# Altium footprint library con-wago255.PCBLIB: 101 footprints (part 2 of 7)
Each footprint in its own frame and in the unit in brackets; x right, y up, seen from the top. Pads: shape width x height; smd on the part's side, far side on the other; paste and mask are expansions set on the pad; w line width, h text height; cw(c..) or ccw(c..) is an arc to the next point about the centre after c.
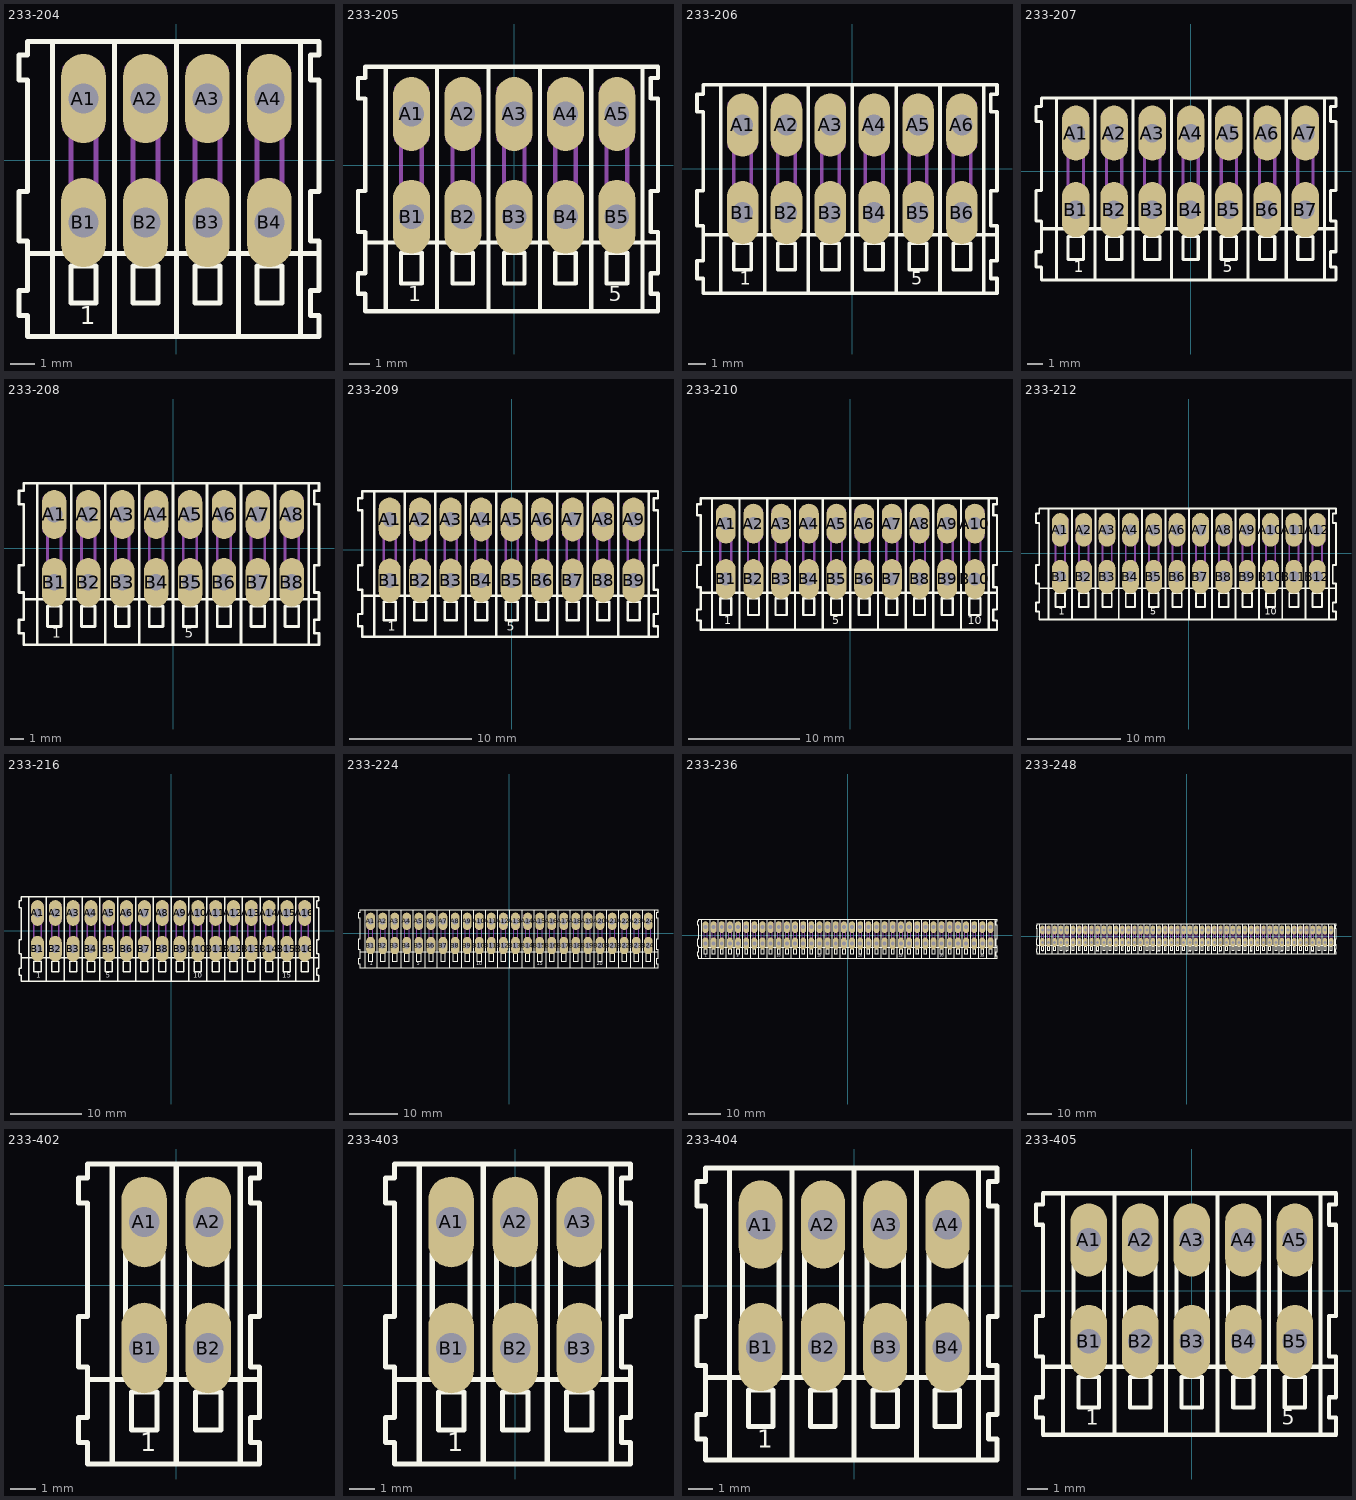
[diagram p1: the footprints below, top view; thin cyan lines are the x and y axes]

## 233-204 [mil]
pads (8):
  oval 70.86x141.72 hole 47.24: A1(-147.64,98.43) A2(-49.21,98.43) A3(49.21,98.43) A4(147.64,98.43) B1(-147.64,-98.43) B2(-49.21,-98.43) B3(49.21,-98.43) B4(147.64,-98.43)
Top Overlay:
  lines w8: -236.22,-147.64 226.38,-147.64 ; -196.85,-275.59 -196.85,187.01 ; -98.43,-275.59 -98.43,187.01 ; 0,-275.59 0,187.01 ; 98.43,-275.59 98.43,187.01 ; 196.85,-275.59 196.85,187.01 ; 226.38,-147.64 226.38,-206.69 212.6,-206.69 212.6,-246.06 226.38,-246.06 226.38,-279.53 -236.22,-279.53 -236.22,-246.06 -250,-246.06 -250,-206.69 -236.22,-206.69 -236.22,-127.95 -250,-127.95 -250,-49.21 -236.22,-49.21 -236.22,127.95 -250,127.95 -250,167.32 -236.22,167.32 -236.22,188.98 226.38,188.98 226.38,167.32 212.6,167.32 212.6,127.95 226.38,127.95 226.38,-49.21 212.6,-49.21 212.6,-127.95 226.38,-127.95 226.38,-147.64 ; -167.32,-226.38 -167.32,-167.32 -127.95,-167.32 -127.95,-226.38 -167.32,-226.38 ; -68.9,-226.38 -68.9,-167.32 -29.53,-167.32 -29.53,-226.38 -68.9,-226.38 ; 29.53,-226.38 29.53,-167.32 68.9,-167.32 68.9,-226.38 29.53,-226.38 ; 127.95,-226.38 127.95,-167.32 167.32,-167.32 167.32,-226.38 127.95,-226.38
  text "1" at -153.54,-269.69 h49.6
Mechanical 16:
  lines w8: -167.32,49.21 -177.17,49.21 -177.17,147.64 -118.11,147.64 -118.11,49.21 -127.95,49.21 ; -167.32,49.21 -127.95,49.21 ; -167.32,49.21 -167.32,-39.37 -127.95,-39.37 -127.95,49.21 ; -68.9,49.21 -78.74,49.21 -78.74,147.64 -19.69,147.64 -19.69,49.21 -29.53,49.21 ; -68.9,49.21 -29.53,49.21 ; -68.9,49.21 -68.9,-39.37 -29.53,-39.37 -29.53,49.21 ; 29.53,49.21 19.69,49.21 19.69,147.64 78.74,147.64 78.74,49.21 68.9,49.21 ; 29.53,49.21 68.9,49.21 ; 29.53,49.21 29.53,-39.37 68.9,-39.37 68.9,49.21 ; 127.95,49.21 118.11,49.21 118.11,147.64 177.17,147.64 177.17,49.21 167.32,49.21 ; 127.95,49.21 167.32,49.21 ; 127.95,49.21 127.95,-39.37 167.32,-39.37 167.32,49.21 ; -167.32,68.9 -167.32,127.95 -127.95,127.95 -127.95,68.9 -167.32,68.9 ; -68.9,68.9 -68.9,127.95 -29.53,127.95 -29.53,68.9 -68.9,68.9 ; 29.53,68.9 29.53,127.95 68.9,127.95 68.9,68.9 29.53,68.9 ; 127.95,68.9 127.95,127.95 167.32,127.95 167.32,68.9 127.95,68.9

## 233-205 [mm]
pads (10):
  oval 1.8x3.6 hole 1.2: A1(-5,2.5) A2(-2.5,2.5) A3(0,2.5) A4(2.5,2.5) A5(5,2.5) B1(-5,-2.5) B2(-2.5,-2.5) B3(0,-2.5) B4(2.5,-2.5) B5(5,-2.5)
Top Overlay:
  lines w0.203: -7.25,-3.75 7,-3.75 ; -6.25,-7 -6.25,4.75 ; -3.75,-7 -3.75,4.75 ; -1.25,-7 -1.25,4.75 ; 1.25,-7 1.25,4.75 ; 3.75,-7 3.75,4.75 ; 6.25,-7 6.25,4.75 ; 7,-3.75 7,-5.25 6.65,-5.25 6.65,-6.25 7,-6.25 7,-7.1 -7.25,-7.1 -7.25,-6.25 -7.6,-6.25 -7.6,-5.25 -7.25,-5.25 -7.25,-3.25 -7.6,-3.25 -7.6,-1.25 -7.25,-1.25 -7.25,3.25 -7.6,3.25 -7.6,4.25 -7.25,4.25 -7.25,4.8 7,4.8 7,4.25 6.65,4.25 6.65,3.25 7,3.25 7,-1.25 6.65,-1.25 6.65,-3.25 7,-3.25 7,-3.75 ; -5.5,-5.75 -5.5,-4.25 -4.5,-4.25 -4.5,-5.75 -5.5,-5.75 ; -3,-5.75 -3,-4.25 -2,-4.25 -2,-5.75 -3,-5.75 ; -0.5,-5.75 -0.5,-4.25 0.5,-4.25 0.5,-5.75 -0.5,-5.75 ; 2,-5.75 2,-4.25 3,-4.25 3,-5.75 2,-5.75 ; 4.5,-5.75 4.5,-4.25 5.5,-4.25 5.5,-5.75 4.5,-5.75
  text "1" at -5.15,-6.85 h1.26
  text "5" at 4.6,-6.85 h1.26
Mechanical 16:
  lines w0.203: -5.5,1.25 -5.75,1.25 -5.75,3.75 -4.25,3.75 -4.25,1.25 -4.5,1.25 ; -5.5,1.25 -4.5,1.25 ; -5.5,1.25 -5.5,-1 -4.5,-1 -4.5,1.25 ; -3,1.25 -3.25,1.25 -3.25,3.75 -1.75,3.75 -1.75,1.25 -2,1.25 ; -3,1.25 -2,1.25 ; -3,1.25 -3,-1 -2,-1 -2,1.25 ; -0.5,1.25 -0.75,1.25 -0.75,3.75 0.75,3.75 0.75,1.25 0.5,1.25 ; -0.5,1.25 0.5,1.25 ; -0.5,1.25 -0.5,-1 0.5,-1 0.5,1.25 ; 2,1.25 1.75,1.25 1.75,3.75 3.25,3.75 3.25,1.25 3,1.25 ; 2,1.25 3,1.25 ; 2,1.25 2,-1 3,-1 3,1.25 ; 4.5,1.25 4.25,1.25 4.25,3.75 5.75,3.75 5.75,1.25 5.5,1.25 ; 4.5,1.25 5.5,1.25 ; 4.5,1.25 4.5,-1 5.5,-1 5.5,1.25 ; -5.5,1.75 -5.5,3.25 -4.5,3.25 -4.5,1.75 -5.5,1.75 ; -3,1.75 -3,3.25 -2,3.25 -2,1.75 -3,1.75 ; -0.5,1.75 -0.5,3.25 0.5,3.25 0.5,1.75 -0.5,1.75 ; 2,1.75 2,3.25 3,3.25 3,1.75 2,1.75 ; 4.5,1.75 4.5,3.25 5.5,3.25 5.5,1.75 4.5,1.75

## 233-206 [mil]
pads (12):
  oval 70.86x141.72 hole 47.24: A1(-246.06,98.43) A2(-147.64,98.43) A3(-49.21,98.43) A4(49.21,98.43) A5(147.64,98.43) A6(246.06,98.43) B1(-246.06,-98.43) B2(-147.64,-98.43) B3(-49.21,-98.43) B4(49.21,-98.43) B5(147.64,-98.43) B6(246.06,-98.43)
Top Overlay:
  lines w8: -334.65,-147.64 324.8,-147.64 ; -295.28,-275.59 -295.28,187.01 ; -196.85,-275.59 -196.85,187.01 ; -98.43,-275.59 -98.43,187.01 ; 0,-275.59 0,187.01 ; 98.43,-275.59 98.43,187.01 ; 196.85,-275.59 196.85,187.01 ; 295.28,-275.59 295.28,187.01 ; 324.8,-147.64 324.8,-206.69 311.02,-206.69 311.02,-246.06 324.8,-246.06 324.8,-279.53 -334.65,-279.53 -334.65,-246.06 -348.43,-246.06 -348.43,-206.69 -334.65,-206.69 -334.65,-127.95 -348.43,-127.95 -348.43,-49.21 -334.65,-49.21 -334.65,127.95 -348.43,127.95 -348.43,167.32 -334.65,167.32 -334.65,188.98 324.8,188.98 324.8,167.32 311.02,167.32 311.02,127.95 324.8,127.95 324.8,-49.21 311.02,-49.21 311.02,-127.95 324.8,-127.95 324.8,-147.64 ; -265.75,-226.38 -265.75,-167.32 -226.38,-167.32 -226.38,-226.38 -265.75,-226.38 ; -167.32,-226.38 -167.32,-167.32 -127.95,-167.32 -127.95,-226.38 -167.32,-226.38 ; -68.9,-226.38 -68.9,-167.32 -29.53,-167.32 -29.53,-226.38 -68.9,-226.38 ; 29.53,-226.38 29.53,-167.32 68.9,-167.32 68.9,-226.38 29.53,-226.38 ; 127.95,-226.38 127.95,-167.32 167.32,-167.32 167.32,-226.38 127.95,-226.38 ; 226.38,-226.38 226.38,-167.32 265.75,-167.32 265.75,-226.38 226.38,-226.38
  text "1" at -251.97,-269.69 h49.6
  text "5" at 131.89,-269.69 h49.6
Mechanical 16:
  lines w8: -265.75,49.21 -275.59,49.21 -275.59,147.64 -216.54,147.64 -216.54,49.21 -226.38,49.21 ; -265.75,49.21 -226.38,49.21 ; -265.75,49.21 -265.75,-39.37 -226.38,-39.37 -226.38,49.21 ; -167.32,49.21 -177.17,49.21 -177.17,147.64 -118.11,147.64 -118.11,49.21 -127.95,49.21 ; -167.32,49.21 -127.95,49.21 ; -167.32,49.21 -167.32,-39.37 -127.95,-39.37 -127.95,49.21 ; -68.9,49.21 -78.74,49.21 -78.74,147.64 -19.69,147.64 -19.69,49.21 -29.53,49.21 ; -68.9,49.21 -29.53,49.21 ; -68.9,49.21 -68.9,-39.37 -29.53,-39.37 -29.53,49.21 ; 29.53,49.21 19.69,49.21 19.69,147.64 78.74,147.64 78.74,49.21 68.9,49.21 ; 29.53,49.21 68.9,49.21 ; 29.53,49.21 29.53,-39.37 68.9,-39.37 68.9,49.21 ; 127.95,49.21 118.11,49.21 118.11,147.64 177.17,147.64 177.17,49.21 167.32,49.21 ; 127.95,49.21 167.32,49.21 ; 127.95,49.21 127.95,-39.37 167.32,-39.37 167.32,49.21 ; 226.38,49.21 216.54,49.21 216.54,147.64 275.59,147.64 275.59,49.21 265.75,49.21 ; 226.38,49.21 265.75,49.21 ; 226.38,49.21 226.38,-39.37 265.75,-39.37 265.75,49.21 ; -265.75,68.9 -265.75,127.95 -226.38,127.95 -226.38,68.9 -265.75,68.9 ; -167.32,68.9 -167.32,127.95 -127.95,127.95 -127.95,68.9 -167.32,68.9 ; -68.9,68.9 -68.9,127.95 -29.53,127.95 -29.53,68.9 -68.9,68.9 ; 29.53,68.9 29.53,127.95 68.9,127.95 68.9,68.9 29.53,68.9 ; 127.95,68.9 127.95,127.95 167.32,127.95 167.32,68.9 127.95,68.9 ; 226.38,68.9 226.38,127.95 265.75,127.95 265.75,68.9 226.38,68.9

## 233-207 [mm]
pads (14):
  oval 1.8x3.6 hole 1.2: A1(-7.5,2.5) A2(-5,2.5) A3(-2.5,2.5) A4(0,2.5) A5(2.5,2.5) A6(5,2.5) A7(7.5,2.5) B1(-7.5,-2.5) B2(-5,-2.5) B3(-2.5,-2.5) B4(0,-2.5) B5(2.5,-2.5) B6(5,-2.5) B7(7.5,-2.5)
Top Overlay:
  lines w0.203: -9.75,-3.75 9.5,-3.75 ; -8.75,-7 -8.75,4.75 ; -6.25,-7 -6.25,4.75 ; -3.75,-7 -3.75,4.75 ; -1.25,-7 -1.25,4.75 ; 1.25,-7 1.25,4.75 ; 3.75,-7 3.75,4.75 ; 6.25,-7 6.25,4.75 ; 8.75,-7 8.75,4.75 ; 9.5,-3.75 9.5,-5.25 9.15,-5.25 9.15,-6.25 9.5,-6.25 9.5,-7.1 -9.75,-7.1 -9.75,-6.25 -10.1,-6.25 -10.1,-5.25 -9.75,-5.25 -9.75,-3.25 -10.1,-3.25 -10.1,-1.25 -9.75,-1.25 -9.75,3.25 -10.1,3.25 -10.1,4.25 -9.75,4.25 -9.75,4.8 9.5,4.8 9.5,4.25 9.15,4.25 9.15,3.25 9.5,3.25 9.5,-1.25 9.15,-1.25 9.15,-3.25 9.5,-3.25 9.5,-3.75 ; -8,-5.75 -8,-4.25 -7,-4.25 -7,-5.75 -8,-5.75 ; -5.5,-5.75 -5.5,-4.25 -4.5,-4.25 -4.5,-5.75 -5.5,-5.75 ; -3,-5.75 -3,-4.25 -2,-4.25 -2,-5.75 -3,-5.75 ; -0.5,-5.75 -0.5,-4.25 0.5,-4.25 0.5,-5.75 -0.5,-5.75 ; 2,-5.75 2,-4.25 3,-4.25 3,-5.75 2,-5.75 ; 4.5,-5.75 4.5,-4.25 5.5,-4.25 5.5,-5.75 4.5,-5.75 ; 7,-5.75 7,-4.25 8,-4.25 8,-5.75 7,-5.75
  text "1" at -7.65,-6.85 h1.26
  text "5" at 2.1,-6.85 h1.26
Mechanical 16:
  lines w0.203: -8,1.25 -8.25,1.25 -8.25,3.75 -6.75,3.75 -6.75,1.25 -7,1.25 ; -8,1.25 -7,1.25 ; -8,1.25 -8,-1 -7,-1 -7,1.25 ; -5.5,1.25 -5.75,1.25 -5.75,3.75 -4.25,3.75 -4.25,1.25 -4.5,1.25 ; -5.5,1.25 -4.5,1.25 ; -5.5,1.25 -5.5,-1 -4.5,-1 -4.5,1.25 ; -3,1.25 -3.25,1.25 -3.25,3.75 -1.75,3.75 -1.75,1.25 -2,1.25 ; -3,1.25 -2,1.25 ; -3,1.25 -3,-1 -2,-1 -2,1.25 ; -0.5,1.25 -0.75,1.25 -0.75,3.75 0.75,3.75 0.75,1.25 0.5,1.25 ; -0.5,1.25 0.5,1.25 ; -0.5,1.25 -0.5,-1 0.5,-1 0.5,1.25 ; 2,1.25 1.75,1.25 1.75,3.75 3.25,3.75 3.25,1.25 3,1.25 ; 2,1.25 3,1.25 ; 2,1.25 2,-1 3,-1 3,1.25 ; 4.5,1.25 4.25,1.25 4.25,3.75 5.75,3.75 5.75,1.25 5.5,1.25 ; 4.5,1.25 5.5,1.25 ; 4.5,1.25 4.5,-1 5.5,-1 5.5,1.25 ; 7,1.25 6.75,1.25 6.75,3.75 8.25,3.75 8.25,1.25 8,1.25 ; 7,1.25 8,1.25 ; 7,1.25 7,-1 8,-1 8,1.25 ; -8,1.75 -8,3.25 -7,3.25 -7,1.75 -8,1.75 ; -5.5,1.75 -5.5,3.25 -4.5,3.25 -4.5,1.75 -5.5,1.75 ; -3,1.75 -3,3.25 -2,3.25 -2,1.75 -3,1.75 ; -0.5,1.75 -0.5,3.25 0.5,3.25 0.5,1.75 -0.5,1.75 ; 2,1.75 2,3.25 3,3.25 3,1.75 2,1.75 ; 4.5,1.75 4.5,3.25 5.5,3.25 5.5,1.75 4.5,1.75 ; 7,1.75 7,3.25 8,3.25 8,1.75 7,1.75

## 233-208 [mil]
pads (16):
  oval 70.86x141.72 hole 47.24: A1(-344.49,98.43) A2(-246.06,98.43) A3(-147.64,98.43) A4(-49.21,98.43) A5(49.21,98.43) A6(147.64,98.43) A7(246.06,98.43) A8(344.49,98.43) B1(-344.49,-98.43) B2(-246.06,-98.43) B3(-147.64,-98.43) B4(-49.21,-98.43) B5(49.21,-98.43) B6(147.64,-98.43) B7(246.06,-98.43) B8(344.49,-98.43)
Top Overlay:
  lines w8: -433.07,-147.64 423.23,-147.64 ; -393.7,-275.59 -393.7,187.01 ; -295.28,-275.59 -295.28,187.01 ; -196.85,-275.59 -196.85,187.01 ; -98.43,-275.59 -98.43,187.01 ; 0,-275.59 0,187.01 ; 98.43,-275.59 98.43,187.01 ; 196.85,-275.59 196.85,187.01 ; 295.28,-275.59 295.28,187.01 ; 393.7,-275.59 393.7,187.01 ; 423.23,-147.64 423.23,-206.69 409.45,-206.69 409.45,-246.06 423.23,-246.06 423.23,-279.53 -433.07,-279.53 -433.07,-246.06 -446.85,-246.06 -446.85,-206.69 -433.07,-206.69 -433.07,-127.95 -446.85,-127.95 -446.85,-49.21 -433.07,-49.21 -433.07,127.95 -446.85,127.95 -446.85,167.32 -433.07,167.32 -433.07,188.98 423.23,188.98 423.23,167.32 409.45,167.32 409.45,127.95 423.23,127.95 423.23,-49.21 409.45,-49.21 409.45,-127.95 423.23,-127.95 423.23,-147.64 ; -364.17,-226.38 -364.17,-167.32 -324.8,-167.32 -324.8,-226.38 -364.17,-226.38 ; -265.75,-226.38 -265.75,-167.32 -226.38,-167.32 -226.38,-226.38 -265.75,-226.38 ; -167.32,-226.38 -167.32,-167.32 -127.95,-167.32 -127.95,-226.38 -167.32,-226.38 ; -68.9,-226.38 -68.9,-167.32 -29.53,-167.32 -29.53,-226.38 -68.9,-226.38 ; 29.53,-226.38 29.53,-167.32 68.9,-167.32 68.9,-226.38 29.53,-226.38 ; 127.95,-226.38 127.95,-167.32 167.32,-167.32 167.32,-226.38 127.95,-226.38 ; 226.38,-226.38 226.38,-167.32 265.75,-167.32 265.75,-226.38 226.38,-226.38 ; 324.8,-226.38 324.8,-167.32 364.17,-167.32 364.17,-226.38 324.8,-226.38
  text "1" at -350.39,-269.69 h49.6
  text "5" at 33.46,-269.69 h49.6
Mechanical 16:
  lines w8: -364.17,49.21 -374.02,49.21 -374.02,147.64 -314.96,147.64 -314.96,49.21 -324.8,49.21 ; -364.17,49.21 -324.8,49.21 ; -364.17,49.21 -364.17,-39.37 -324.8,-39.37 -324.8,49.21 ; -265.75,49.21 -275.59,49.21 -275.59,147.64 -216.54,147.64 -216.54,49.21 -226.38,49.21 ; -265.75,49.21 -226.38,49.21 ; -265.75,49.21 -265.75,-39.37 -226.38,-39.37 -226.38,49.21 ; -167.32,49.21 -177.17,49.21 -177.17,147.64 -118.11,147.64 -118.11,49.21 -127.95,49.21 ; -167.32,49.21 -127.95,49.21 ; -167.32,49.21 -167.32,-39.37 -127.95,-39.37 -127.95,49.21 ; -68.9,49.21 -78.74,49.21 -78.74,147.64 -19.69,147.64 -19.69,49.21 -29.53,49.21 ; -68.9,49.21 -29.53,49.21 ; -68.9,49.21 -68.9,-39.37 -29.53,-39.37 -29.53,49.21 ; 29.53,49.21 19.69,49.21 19.69,147.64 78.74,147.64 78.74,49.21 68.9,49.21 ; 29.53,49.21 68.9,49.21 ; 29.53,49.21 29.53,-39.37 68.9,-39.37 68.9,49.21 ; 127.95,49.21 118.11,49.21 118.11,147.64 177.17,147.64 177.17,49.21 167.32,49.21 ; 127.95,49.21 167.32,49.21 ; 127.95,49.21 127.95,-39.37 167.32,-39.37 167.32,49.21 ; 226.38,49.21 216.54,49.21 216.54,147.64 275.59,147.64 275.59,49.21 265.75,49.21 ; 226.38,49.21 265.75,49.21 ; 226.38,49.21 226.38,-39.37 265.75,-39.37 265.75,49.21 ; 324.8,49.21 314.96,49.21 314.96,147.64 374.02,147.64 374.02,49.21 364.17,49.21 ; 324.8,49.21 364.17,49.21 ; 324.8,49.21 324.8,-39.37 364.17,-39.37 364.17,49.21 ; -364.17,68.9 -364.17,127.95 -324.8,127.95 -324.8,68.9 -364.17,68.9 ; -265.75,68.9 -265.75,127.95 -226.38,127.95 -226.38,68.9 -265.75,68.9 ; -167.32,68.9 -167.32,127.95 -127.95,127.95 -127.95,68.9 -167.32,68.9 ; -68.9,68.9 -68.9,127.95 -29.53,127.95 -29.53,68.9 -68.9,68.9 ; 29.53,68.9 29.53,127.95 68.9,127.95 68.9,68.9 29.53,68.9 ; 127.95,68.9 127.95,127.95 167.32,127.95 167.32,68.9 127.95,68.9 ; 226.38,68.9 226.38,127.95 265.75,127.95 265.75,68.9 226.38,68.9 ; 324.8,68.9 324.8,127.95 364.17,127.95 364.17,68.9 324.8,68.9

## 233-209 [mm]
pads (18):
  oval 1.8x3.6 hole 1.2: A1(-10,2.5) A2(-7.5,2.5) A3(-5,2.5) A4(-2.5,2.5) A5(0,2.5) A6(2.5,2.5) A7(5,2.5) A8(7.5,2.5) A9(10,2.5) B1(-10,-2.5) B2(-7.5,-2.5) B3(-5,-2.5) B4(-2.5,-2.5) B5(0,-2.5) B6(2.5,-2.5) B7(5,-2.5) B8(7.5,-2.5) B9(10,-2.5)
Top Overlay:
  lines w0.203: -12.25,-3.75 12,-3.75 ; -11.25,-7 -11.25,4.75 ; -8.75,-7 -8.75,4.75 ; -6.25,-7 -6.25,4.75 ; -3.75,-7 -3.75,4.75 ; -1.25,-7 -1.25,4.75 ; 1.25,-7 1.25,4.75 ; 3.75,-7 3.75,4.75 ; 6.25,-7 6.25,4.75 ; 8.75,-7 8.75,4.75 ; 11.25,-7 11.25,4.75 ; 12,-3.75 12,-5.25 11.65,-5.25 11.65,-6.25 12,-6.25 12,-7.1 -12.25,-7.1 -12.25,-6.25 -12.6,-6.25 -12.6,-5.25 -12.25,-5.25 -12.25,-3.25 -12.6,-3.25 -12.6,-1.25 -12.25,-1.25 -12.25,3.25 -12.6,3.25 -12.6,4.25 -12.25,4.25 -12.25,4.8 12,4.8 12,4.25 11.65,4.25 11.65,3.25 12,3.25 12,-1.25 11.65,-1.25 11.65,-3.25 12,-3.25 12,-3.75 ; -10.5,-5.75 -10.5,-4.25 -9.5,-4.25 -9.5,-5.75 -10.5,-5.75 ; -8,-5.75 -8,-4.25 -7,-4.25 -7,-5.75 -8,-5.75 ; -5.5,-5.75 -5.5,-4.25 -4.5,-4.25 -4.5,-5.75 -5.5,-5.75 ; -3,-5.75 -3,-4.25 -2,-4.25 -2,-5.75 -3,-5.75 ; -0.5,-5.75 -0.5,-4.25 0.5,-4.25 0.5,-5.75 -0.5,-5.75 ; 2,-5.75 2,-4.25 3,-4.25 3,-5.75 2,-5.75 ; 4.5,-5.75 4.5,-4.25 5.5,-4.25 5.5,-5.75 4.5,-5.75 ; 7,-5.75 7,-4.25 8,-4.25 8,-5.75 7,-5.75 ; 9.5,-5.75 9.5,-4.25 10.5,-4.25 10.5,-5.75 9.5,-5.75
  text "1" at -10.15,-6.85 h1.26
  text "5" at -0.4,-6.85 h1.26
Mechanical 16:
  lines w0.203: -10.5,1.25 -10.75,1.25 -10.75,3.75 -9.25,3.75 -9.25,1.25 -9.5,1.25 ; -10.5,1.25 -9.5,1.25 ; -10.5,1.25 -10.5,-1 -9.5,-1 -9.5,1.25 ; -8,1.25 -8.25,1.25 -8.25,3.75 -6.75,3.75 -6.75,1.25 -7,1.25 ; -8,1.25 -7,1.25 ; -8,1.25 -8,-1 -7,-1 -7,1.25 ; -5.5,1.25 -5.75,1.25 -5.75,3.75 -4.25,3.75 -4.25,1.25 -4.5,1.25 ; -5.5,1.25 -4.5,1.25 ; -5.5,1.25 -5.5,-1 -4.5,-1 -4.5,1.25 ; -3,1.25 -3.25,1.25 -3.25,3.75 -1.75,3.75 -1.75,1.25 -2,1.25 ; -3,1.25 -2,1.25 ; -3,1.25 -3,-1 -2,-1 -2,1.25 ; -0.5,1.25 -0.75,1.25 -0.75,3.75 0.75,3.75 0.75,1.25 0.5,1.25 ; -0.5,1.25 0.5,1.25 ; -0.5,1.25 -0.5,-1 0.5,-1 0.5,1.25 ; 2,1.25 1.75,1.25 1.75,3.75 3.25,3.75 3.25,1.25 3,1.25 ; 2,1.25 3,1.25 ; 2,1.25 2,-1 3,-1 3,1.25 ; 4.5,1.25 4.25,1.25 4.25,3.75 5.75,3.75 5.75,1.25 5.5,1.25 ; 4.5,1.25 5.5,1.25 ; 4.5,1.25 4.5,-1 5.5,-1 5.5,1.25 ; 7,1.25 6.75,1.25 6.75,3.75 8.25,3.75 8.25,1.25 8,1.25 ; 7,1.25 8,1.25 ; 7,1.25 7,-1 8,-1 8,1.25 ; 9.5,1.25 9.25,1.25 9.25,3.75 10.75,3.75 10.75,1.25 10.5,1.25 ; 9.5,1.25 10.5,1.25 ; 9.5,1.25 9.5,-1 10.5,-1 10.5,1.25 ; -10.5,1.75 -10.5,3.25 -9.5,3.25 -9.5,1.75 -10.5,1.75 ; -8,1.75 -8,3.25 -7,3.25 -7,1.75 -8,1.75 ; -5.5,1.75 -5.5,3.25 -4.5,3.25 -4.5,1.75 -5.5,1.75 ; -3,1.75 -3,3.25 -2,3.25 -2,1.75 -3,1.75 ; -0.5,1.75 -0.5,3.25 0.5,3.25 0.5,1.75 -0.5,1.75 ; 2,1.75 2,3.25 3,3.25 3,1.75 2,1.75 ; 4.5,1.75 4.5,3.25 5.5,3.25 5.5,1.75 4.5,1.75 ; 7,1.75 7,3.25 8,3.25 8,1.75 7,1.75 ; 9.5,1.75 9.5,3.25 10.5,3.25 10.5,1.75 9.5,1.75

## 233-210 [mil]
pads (20):
  oval 70.86x141.72 hole 47.24: A1(-442.91,98.43) A2(-344.49,98.43) A3(-246.06,98.43) A4(-147.64,98.43) A5(-49.21,98.43) A6(49.21,98.43) A7(147.64,98.43) A8(246.06,98.43) A9(344.49,98.43) A10(442.91,98.43) B1(-442.91,-98.43) B2(-344.49,-98.43) B3(-246.06,-98.43) B4(-147.64,-98.43) B5(-49.21,-98.43) B6(49.21,-98.43) B7(147.64,-98.43) B8(246.06,-98.43) B9(344.49,-98.43) B10(442.91,-98.43)
Top Overlay:
  lines w8: -531.5,-147.64 521.65,-147.64 ; -492.13,-275.59 -492.13,187.01 ; -393.7,-275.59 -393.7,187.01 ; -295.28,-275.59 -295.28,187.01 ; -196.85,-275.59 -196.85,187.01 ; -98.43,-275.59 -98.43,187.01 ; 0,-275.59 0,187.01 ; 98.43,-275.59 98.43,187.01 ; 196.85,-275.59 196.85,187.01 ; 295.28,-275.59 295.28,187.01 ; 393.7,-275.59 393.7,187.01 ; 492.13,-275.59 492.13,187.01 ; 521.65,-147.64 521.65,-206.69 507.87,-206.69 507.87,-246.06 521.65,-246.06 521.65,-279.53 -531.5,-279.53 -531.5,-246.06 -545.28,-246.06 -545.28,-206.69 -531.5,-206.69 -531.5,-127.95 -545.28,-127.95 -545.28,-49.21 -531.5,-49.21 -531.5,127.95 -545.28,127.95 -545.28,167.32 -531.5,167.32 -531.5,188.98 521.65,188.98 521.65,167.32 507.87,167.32 507.87,127.95 521.65,127.95 521.65,-49.21 507.87,-49.21 507.87,-127.95 521.65,-127.95 521.65,-147.64 ; -462.6,-226.38 -462.6,-167.32 -423.23,-167.32 -423.23,-226.38 -462.6,-226.38 ; -364.17,-226.38 -364.17,-167.32 -324.8,-167.32 -324.8,-226.38 -364.17,-226.38 ; -265.75,-226.38 -265.75,-167.32 -226.38,-167.32 -226.38,-226.38 -265.75,-226.38 ; -167.32,-226.38 -167.32,-167.32 -127.95,-167.32 -127.95,-226.38 -167.32,-226.38 ; -68.9,-226.38 -68.9,-167.32 -29.53,-167.32 -29.53,-226.38 -68.9,-226.38 ; 29.53,-226.38 29.53,-167.32 68.9,-167.32 68.9,-226.38 29.53,-226.38 ; 127.95,-226.38 127.95,-167.32 167.32,-167.32 167.32,-226.38 127.95,-226.38 ; 226.38,-226.38 226.38,-167.32 265.75,-167.32 265.75,-226.38 226.38,-226.38 ; 324.8,-226.38 324.8,-167.32 364.17,-167.32 364.17,-226.38 324.8,-226.38 ; 423.23,-226.38 423.23,-167.32 462.6,-167.32 462.6,-226.38 423.23,-226.38
  text "1" at -448.82,-269.69 h49.6
  text "10" at 417.32,-269.69 h49.6
  text "5" at -64.96,-269.69 h49.6
Mechanical 16:
  lines w8: -462.6,49.21 -472.44,49.21 -472.44,147.64 -413.39,147.64 -413.39,49.21 -423.23,49.21 ; -462.6,49.21 -423.23,49.21 ; -462.6,49.21 -462.6,-39.37 -423.23,-39.37 -423.23,49.21 ; -364.17,49.21 -374.02,49.21 -374.02,147.64 -314.96,147.64 -314.96,49.21 -324.8,49.21 ; -364.17,49.21 -324.8,49.21 ; -364.17,49.21 -364.17,-39.37 -324.8,-39.37 -324.8,49.21 ; -265.75,49.21 -275.59,49.21 -275.59,147.64 -216.54,147.64 -216.54,49.21 -226.38,49.21 ; -265.75,49.21 -226.38,49.21 ; -265.75,49.21 -265.75,-39.37 -226.38,-39.37 -226.38,49.21 ; -167.32,49.21 -177.17,49.21 -177.17,147.64 -118.11,147.64 -118.11,49.21 -127.95,49.21 ; -167.32,49.21 -127.95,49.21 ; -167.32,49.21 -167.32,-39.37 -127.95,-39.37 -127.95,49.21 ; -68.9,49.21 -78.74,49.21 -78.74,147.64 -19.69,147.64 -19.69,49.21 -29.53,49.21 ; -68.9,49.21 -29.53,49.21 ; -68.9,49.21 -68.9,-39.37 -29.53,-39.37 -29.53,49.21 ; 29.53,49.21 19.69,49.21 19.69,147.64 78.74,147.64 78.74,49.21 68.9,49.21 ; 29.53,49.21 68.9,49.21 ; 29.53,49.21 29.53,-39.37 68.9,-39.37 68.9,49.21 ; 127.95,49.21 118.11,49.21 118.11,147.64 177.17,147.64 177.17,49.21 167.32,49.21 ; 127.95,49.21 167.32,49.21 ; 127.95,49.21 127.95,-39.37 167.32,-39.37 167.32,49.21 ; 226.38,49.21 216.54,49.21 216.54,147.64 275.59,147.64 275.59,49.21 265.75,49.21 ; 226.38,49.21 265.75,49.21 ; 226.38,49.21 226.38,-39.37 265.75,-39.37 265.75,49.21 ; 324.8,49.21 314.96,49.21 314.96,147.64 374.02,147.64 374.02,49.21 364.17,49.21 ; 324.8,49.21 364.17,49.21 ; 324.8,49.21 324.8,-39.37 364.17,-39.37 364.17,49.21 ; 423.23,49.21 413.39,49.21 413.39,147.64 472.44,147.64 472.44,49.21 462.6,49.21 ; 423.23,49.21 462.6,49.21 ; 423.23,49.21 423.23,-39.37 462.6,-39.37 462.6,49.21 ; -462.6,68.9 -462.6,127.95 -423.23,127.95 -423.23,68.9 -462.6,68.9 ; -364.17,68.9 -364.17,127.95 -324.8,127.95 -324.8,68.9 -364.17,68.9 ; -265.75,68.9 -265.75,127.95 -226.38,127.95 -226.38,68.9 -265.75,68.9 ; -167.32,68.9 -167.32,127.95 -127.95,127.95 -127.95,68.9 -167.32,68.9 ; -68.9,68.9 -68.9,127.95 -29.53,127.95 -29.53,68.9 -68.9,68.9 ; 29.53,68.9 29.53,127.95 68.9,127.95 68.9,68.9 29.53,68.9 ; 127.95,68.9 127.95,127.95 167.32,127.95 167.32,68.9 127.95,68.9 ; 226.38,68.9 226.38,127.95 265.75,127.95 265.75,68.9 226.38,68.9 ; 324.8,68.9 324.8,127.95 364.17,127.95 364.17,68.9 324.8,68.9 ; 423.23,68.9 423.23,127.95 462.6,127.95 462.6,68.9 423.23,68.9

## 233-212 [mil]
pads (24):
  oval 70.86x141.72 hole 47.24: A1(-541.34,98.43) A2(-442.91,98.43) A3(-344.49,98.43) A4(-246.06,98.43) A5(-147.64,98.43) A6(-49.21,98.43) A7(49.21,98.43) A8(147.64,98.43) A9(246.06,98.43) A10(344.49,98.43) A11(442.91,98.43) A12(541.34,98.43) B1(-541.34,-98.43) B2(-442.91,-98.43) B3(-344.49,-98.43) B4(-246.06,-98.43) B5(-147.64,-98.43) B6(-49.21,-98.43) B7(49.21,-98.43) B8(147.64,-98.43) B9(246.06,-98.43) B10(344.49,-98.43) B11(442.91,-98.43) B12(541.34,-98.43)
Top Overlay:
  lines w8: -629.92,-147.64 620.08,-147.64 ; -590.55,-275.59 -590.55,187.01 ; -492.13,-275.59 -492.13,187.01 ; -393.7,-275.59 -393.7,187.01 ; -295.28,-275.59 -295.28,187.01 ; -196.85,-275.59 -196.85,187.01 ; -98.43,-275.59 -98.43,187.01 ; 0,-275.59 0,187.01 ; 98.43,-275.59 98.43,187.01 ; 196.85,-275.59 196.85,187.01 ; 295.28,-275.59 295.28,187.01 ; 393.7,-275.59 393.7,187.01 ; 492.13,-275.59 492.13,187.01 ; 590.55,-275.59 590.55,187.01 ; 620.08,-147.64 620.08,-206.69 606.3,-206.69 606.3,-246.06 620.08,-246.06 620.08,-279.53 -629.92,-279.53 -629.92,-246.06 -643.7,-246.06 -643.7,-206.69 -629.92,-206.69 -629.92,-127.95 -643.7,-127.95 -643.7,-49.21 -629.92,-49.21 -629.92,127.95 -643.7,127.95 -643.7,167.32 -629.92,167.32 -629.92,188.98 620.08,188.98 620.08,167.32 606.3,167.32 606.3,127.95 620.08,127.95 620.08,-49.21 606.3,-49.21 606.3,-127.95 620.08,-127.95 620.08,-147.64 ; -561.02,-226.38 -561.02,-167.32 -521.65,-167.32 -521.65,-226.38 -561.02,-226.38 ; -462.6,-226.38 -462.6,-167.32 -423.23,-167.32 -423.23,-226.38 -462.6,-226.38 ; -364.17,-226.38 -364.17,-167.32 -324.8,-167.32 -324.8,-226.38 -364.17,-226.38 ; -265.75,-226.38 -265.75,-167.32 -226.38,-167.32 -226.38,-226.38 -265.75,-226.38 ; -167.32,-226.38 -167.32,-167.32 -127.95,-167.32 -127.95,-226.38 -167.32,-226.38 ; -68.9,-226.38 -68.9,-167.32 -29.53,-167.32 -29.53,-226.38 -68.9,-226.38 ; 29.53,-226.38 29.53,-167.32 68.9,-167.32 68.9,-226.38 29.53,-226.38 ; 127.95,-226.38 127.95,-167.32 167.32,-167.32 167.32,-226.38 127.95,-226.38 ; 226.38,-226.38 226.38,-167.32 265.75,-167.32 265.75,-226.38 226.38,-226.38 ; 324.8,-226.38 324.8,-167.32 364.17,-167.32 364.17,-226.38 324.8,-226.38 ; 423.23,-226.38 423.23,-167.32 462.6,-167.32 462.6,-226.38 423.23,-226.38 ; 521.65,-226.38 521.65,-167.32 561.02,-167.32 561.02,-226.38 521.65,-226.38
  text "1" at -547.24,-269.69 h49.6
  text "10" at 318.9,-269.69 h49.6
  text "5" at -163.39,-269.69 h49.6
Mechanical 16:
  drawing of 156 lines, arcs and shapes, not listed

## 233-216 [mil]
pads (32):
  oval 70.86x141.72 hole 47.24: A1(-738.19,98.43) A2(-639.76,98.43) A3(-541.34,98.43) A4(-442.91,98.43) A5(-344.49,98.43) A6(-246.06,98.43) A7(-147.64,98.43) A8(-49.21,98.43) A9(49.21,98.43) A10(147.64,98.43) A11(246.06,98.43) A12(344.49,98.43) A13(442.91,98.43) A14(541.34,98.43) A15(639.76,98.43) A16(738.19,98.43) B1(-738.19,-98.43) B2(-639.76,-98.43) B3(-541.34,-98.43) B4(-442.91,-98.43) B5(-344.49,-98.43) B6(-246.06,-98.43) B7(-147.64,-98.43) B8(-49.21,-98.43) B9(49.21,-98.43) B10(147.64,-98.43) B11(246.06,-98.43) B12(344.49,-98.43) B13(442.91,-98.43) B14(541.34,-98.43) B15(639.76,-98.43) B16(738.19,-98.43)
Top Overlay:
  lines w8: -826.77,-147.64 816.93,-147.64 ; -787.4,-275.59 -787.4,187.01 ; -688.98,-275.59 -688.98,187.01 ; -590.55,-275.59 -590.55,187.01 ; -492.13,-275.59 -492.13,187.01 ; -393.7,-275.59 -393.7,187.01 ; -295.28,-275.59 -295.28,187.01 ; -196.85,-275.59 -196.85,187.01 ; -98.43,-275.59 -98.43,187.01 ; 0,-275.59 0,187.01 ; 98.43,-275.59 98.43,187.01 ; 196.85,-275.59 196.85,187.01 ; 295.28,-275.59 295.28,187.01 ; 393.7,-275.59 393.7,187.01 ; 492.13,-275.59 492.13,187.01 ; 590.55,-275.59 590.55,187.01 ; 688.98,-275.59 688.98,187.01 ; 787.4,-275.59 787.4,187.01 ; 816.93,-147.64 816.93,-206.69 803.15,-206.69 803.15,-246.06 816.93,-246.06 816.93,-279.53 -826.77,-279.53 -826.77,-246.06 -840.55,-246.06 -840.55,-206.69 -826.77,-206.69 -826.77,-127.95 -840.55,-127.95 -840.55,-49.21 -826.77,-49.21 -826.77,127.95 -840.55,127.95 -840.55,167.32 -826.77,167.32 -826.77,188.98 816.93,188.98 816.93,167.32 803.15,167.32 803.15,127.95 816.93,127.95 816.93,-49.21 803.15,-49.21 803.15,-127.95 816.93,-127.95 816.93,-147.64 ; -757.87,-226.38 -757.87,-167.32 -718.5,-167.32 -718.5,-226.38 -757.87,-226.38 ; -659.45,-226.38 -659.45,-167.32 -620.08,-167.32 -620.08,-226.38 -659.45,-226.38 ; -561.02,-226.38 -561.02,-167.32 -521.65,-167.32 -521.65,-226.38 -561.02,-226.38 ; -462.6,-226.38 -462.6,-167.32 -423.23,-167.32 -423.23,-226.38 -462.6,-226.38 ; -364.17,-226.38 -364.17,-167.32 -324.8,-167.32 -324.8,-226.38 -364.17,-226.38 ; -265.75,-226.38 -265.75,-167.32 -226.38,-167.32 -226.38,-226.38 -265.75,-226.38 ; -167.32,-226.38 -167.32,-167.32 -127.95,-167.32 -127.95,-226.38 -167.32,-226.38 ; -68.9,-226.38 -68.9,-167.32 -29.53,-167.32 -29.53,-226.38 -68.9,-226.38 ; 29.53,-226.38 29.53,-167.32 68.9,-167.32 68.9,-226.38 29.53,-226.38 ; 127.95,-226.38 127.95,-167.32 167.32,-167.32 167.32,-226.38 127.95,-226.38 ; 226.38,-226.38 226.38,-167.32 265.75,-167.32 265.75,-226.38 226.38,-226.38 ; 324.8,-226.38 324.8,-167.32 364.17,-167.32 364.17,-226.38 324.8,-226.38 ; 423.23,-226.38 423.23,-167.32 462.6,-167.32 462.6,-226.38 423.23,-226.38 ; 521.65,-226.38 521.65,-167.32 561.02,-167.32 561.02,-226.38 521.65,-226.38 ; 620.08,-226.38 620.08,-167.32 659.45,-167.32 659.45,-226.38 620.08,-226.38 ; 718.5,-226.38 718.5,-167.32 757.87,-167.32 757.87,-226.38 718.5,-226.38
  text "1" at -744.09,-269.69 h49.6
  text "10" at 122.05,-269.69 h49.6
  text "5" at -360.24,-269.69 h49.6
  text "15" at 614.17,-269.69 h49.6
Mechanical 16:
  drawing of 208 lines, arcs and shapes, not listed

## 233-224 [mm]
pads (48):
  oval 1.8x3.6 hole 1.2: A1(-28.75,2.5) A2(-26.25,2.5) A3(-23.75,2.5) A4(-21.25,2.5) A5(-18.75,2.5) A6(-16.25,2.5) A7(-13.75,2.5) A8(-11.25,2.5) A9(-8.75,2.5) A10(-6.25,2.5) A11(-3.75,2.5) A12(-1.25,2.5) A13(1.25,2.5) A14(3.75,2.5) A15(6.25,2.5) A16(8.75,2.5) A17(11.25,2.5) A18(13.75,2.5) A19(16.25,2.5) A20(18.75,2.5) A21(21.25,2.5) A22(23.75,2.5) A23(26.25,2.5) A24(28.75,2.5) B1(-28.75,-2.5) B2(-26.25,-2.5) B3(-23.75,-2.5) B4(-21.25,-2.5) B5(-18.75,-2.5) B6(-16.25,-2.5) B7(-13.75,-2.5) B8(-11.25,-2.5) B9(-8.75,-2.5) B10(-6.25,-2.5) B11(-3.75,-2.5) B12(-1.25,-2.5) B13(1.25,-2.5) B14(3.75,-2.5) B15(6.25,-2.5) B16(8.75,-2.5) B17(11.25,-2.5) B18(13.75,-2.5) B19(16.25,-2.5) B20(18.75,-2.5) B21(21.25,-2.5) B22(23.75,-2.5) B23(26.25,-2.5) B24(28.75,-2.5)
Top Overlay:
  drawing of 151 lines, arcs and shapes, not listed
  text "1" at -28.9,-6.85 h1.26
  text "10" at -6.9,-6.85 h1.26
  text "20" at 18.1,-6.85 h1.26
  text "5" at -19.15,-6.85 h1.26
  text "15" at 5.6,-6.85 h1.26
Mechanical 16:
  drawing of 312 lines, arcs and shapes, not listed

## 233-236 [mm]
pads (72):
  oval 1.8x3.6 hole 1.2: A1(-43.75,2.5) A2(-41.25,2.5) A3(-38.75,2.5) A4(-36.25,2.5) A5(-33.75,2.5) A6(-31.25,2.5) A7(-28.75,2.5) A8(-26.25,2.5) A9(-23.75,2.5) A10(-21.25,2.5) A11(-18.75,2.5) A12(-16.25,2.5) A13(-13.75,2.5) A14(-11.25,2.5) A15(-8.75,2.5) A16(-6.25,2.5) A17(-3.75,2.5) A18(-1.25,2.5) A19(1.25,2.5) A20(3.75,2.5) A21(6.25,2.5) A22(8.75,2.5) A23(11.25,2.5) A24(13.75,2.5) A25(16.25,2.5) A26(18.75,2.5) A27(21.25,2.5) A28(23.75,2.5) A29(26.25,2.5) A30(28.75,2.5) A31(31.25,2.5) A32(33.75,2.5) A33(36.25,2.5) A34(38.75,2.5) A35(41.25,2.5) A36(43.75,2.5) B1(-43.75,-2.5) B2(-41.25,-2.5) B3(-38.75,-2.5) B4(-36.25,-2.5) B5(-33.75,-2.5) B6(-31.25,-2.5) B7(-28.75,-2.5) B8(-26.25,-2.5) B9(-23.75,-2.5) B10(-21.25,-2.5) B11(-18.75,-2.5) B12(-16.25,-2.5) B13(-13.75,-2.5) B14(-11.25,-2.5) B15(-8.75,-2.5) B16(-6.25,-2.5) B17(-3.75,-2.5) B18(-1.25,-2.5) B19(1.25,-2.5) B20(3.75,-2.5) B21(6.25,-2.5) B22(8.75,-2.5) B23(11.25,-2.5) B24(13.75,-2.5) B25(16.25,-2.5) B26(18.75,-2.5) B27(21.25,-2.5) B28(23.75,-2.5) B29(26.25,-2.5) B30(28.75,-2.5) B31(31.25,-2.5) B32(33.75,-2.5) B33(36.25,-2.5) B34(38.75,-2.5) B35(41.25,-2.5) B36(43.75,-2.5)
Top Overlay:
  drawing of 211 lines, arcs and shapes, not listed
  text "1" at -43.9,-6.85 h1.26
  text "10" at -21.9,-6.85 h1.26
  text "20" at 3.1,-6.85 h1.26
  text "30" at 28.1,-6.85 h1.26
  text "5" at -34.15,-6.85 h1.26
  text "15" at -9.4,-6.85 h1.26
  text "25" at 15.6,-6.85 h1.26
  text "35" at 40.6,-6.85 h1.26
Mechanical 16:
  drawing of 468 lines, arcs and shapes, not listed

## 233-248 [mm]
pads (96):
  oval 1.8x3.6 hole 1.2: A1(-58.75,2.5) A2(-56.25,2.5) A3(-53.75,2.5) A4(-51.25,2.5) A5(-48.75,2.5) A6(-46.25,2.5) A7(-43.75,2.5) A8(-41.25,2.5) A9(-38.75,2.5) A10(-36.25,2.5) A11(-33.75,2.5) A12(-31.25,2.5) A13(-28.75,2.5) A14(-26.25,2.5) A15(-23.75,2.5) A16(-21.25,2.5) A17(-18.75,2.5) A18(-16.25,2.5) A19(-13.75,2.5) A20(-11.25,2.5) A21(-8.75,2.5) A22(-6.25,2.5) A23(-3.75,2.5) A24(-1.25,2.5) A25(1.25,2.5) A26(3.75,2.5) A27(6.25,2.5) A28(8.75,2.5) A29(11.25,2.5) A30(13.75,2.5) A31(16.25,2.5) A32(18.75,2.5) A33(21.25,2.5) A34(23.75,2.5) A35(26.25,2.5) A36(28.75,2.5) A37(31.25,2.5) A38(33.75,2.5) A39(36.25,2.5) A40(38.75,2.5) A41(41.25,2.5) A42(43.75,2.5) A43(46.25,2.5) A44(48.75,2.5) A45(51.25,2.5) A46(53.75,2.5) A47(56.25,2.5) A48(58.75,2.5) B1(-58.75,-2.5) B2(-56.25,-2.5) B3(-53.75,-2.5) B4(-51.25,-2.5) B5(-48.75,-2.5) B6(-46.25,-2.5) B7(-43.75,-2.5) B8(-41.25,-2.5) B9(-38.75,-2.5) B10(-36.25,-2.5) B11(-33.75,-2.5) B12(-31.25,-2.5) B13(-28.75,-2.5) B14(-26.25,-2.5) B15(-23.75,-2.5) B16(-21.25,-2.5) B17(-18.75,-2.5) B18(-16.25,-2.5) B19(-13.75,-2.5) B20(-11.25,-2.5) B21(-8.75,-2.5) B22(-6.25,-2.5) B23(-3.75,-2.5) B24(-1.25,-2.5) B25(1.25,-2.5) B26(3.75,-2.5) B27(6.25,-2.5) B28(8.75,-2.5) B29(11.25,-2.5) B30(13.75,-2.5) B31(16.25,-2.5) B32(18.75,-2.5) B33(21.25,-2.5) B34(23.75,-2.5) B35(26.25,-2.5) B36(28.75,-2.5) B37(31.25,-2.5) B38(33.75,-2.5) B39(36.25,-2.5) B40(38.75,-2.5) B41(41.25,-2.5) B42(43.75,-2.5) B43(46.25,-2.5) B44(48.75,-2.5) B45(51.25,-2.5) B46(53.75,-2.5) B47(56.25,-2.5) B48(58.75,-2.5)
Top Overlay:
  drawing of 271 lines, arcs and shapes, not listed
  text "1" at -58.9,-6.85 h1.26
  text "10" at -36.9,-6.85 h1.26
  text "20" at -11.9,-6.85 h1.26
  text "30" at 13.1,-6.85 h1.26
  text "40" at 38.1,-6.85 h1.26
  text "5" at -49.15,-6.85 h1.26
  text "15" at -24.4,-6.85 h1.26
  text "25" at 0.6,-6.85 h1.26
  text "35" at 25.6,-6.85 h1.26
  text "45" at 50.6,-6.85 h1.26
Mechanical 16:
  drawing of 624 lines, arcs and shapes, not listed

## 233-402 [mil]
pads (4):
  oval 70.86x141.72 hole 47.24: A1(-50,98.43) A2(50,98.43) B1(-50,-98.43) B2(50,-98.43)
Top Overlay:
  lines w8: -138.58,-147.64 129.72,-147.64 ; -100,-275 -100,185 ; 0,-275 0,185 ; 100,-275 100,185 ; 129.72,-147.64 129.72,-206.69 115.94,-206.69 115.94,-246.06 129.72,-246.06 129.72,-279.53 -138.58,-279.53 -138.58,-246.06 -152.36,-246.06 -152.36,-206.69 -138.58,-206.69 -138.58,-127.95 -152.36,-127.95 -152.36,-49.21 -138.58,-49.21 -138.58,127.95 -152.36,127.95 -152.36,167.32 -138.58,167.32 -138.58,188.98 129.72,188.98 129.72,167.32 115.94,167.32 115.94,127.95 129.72,127.95 129.72,-49.21 115.94,-49.21 115.94,-127.95 129.72,-127.95 129.72,-147.64 ; -79.53,-49.21 -79.53,49.21 -20.47,49.21 -20.47,-49.21 -79.53,-49.21 ; -69.69,-226.38 -69.69,-167.32 -30.32,-167.32 -30.32,-226.38 -69.69,-226.38 ; 20.47,-49.21 20.47,49.21 79.53,49.21 79.53,-49.21 20.47,-49.21 ; 30.32,-226.38 30.32,-167.32 69.69,-167.32 69.69,-226.38 30.32,-226.38
  text "1" at -55.91,-269.69 h49.6

## 233-403 [mil]
pads (6):
  oval 70.86x141.72 hole 47.24: A1(-100,98.43) A2(0,98.43) A3(100,98.43) B1(-100,-98.43) B2(0,-98.43) B3(100,-98.43)
Top Overlay:
  lines w8: -188.58,-147.64 179.72,-147.64 ; -150,-275 -150,185 ; -50,-275 -50,185 ; 50,-275 50,185 ; 150,-275 150,185 ; 179.72,-147.64 179.72,-206.69 165.94,-206.69 165.94,-246.06 179.72,-246.06 179.72,-279.53 -188.58,-279.53 -188.58,-246.06 -202.36,-246.06 -202.36,-206.69 -188.58,-206.69 -188.58,-127.95 -202.36,-127.95 -202.36,-49.21 -188.58,-49.21 -188.58,127.95 -202.36,127.95 -202.36,167.32 -188.58,167.32 -188.58,188.98 179.72,188.98 179.72,167.32 165.94,167.32 165.94,127.95 179.72,127.95 179.72,-49.21 165.94,-49.21 165.94,-127.95 179.72,-127.95 179.72,-147.64 ; -129.53,-49.21 -129.53,49.21 -70.47,49.21 -70.47,-49.21 -129.53,-49.21 ; -119.69,-226.38 -119.69,-167.32 -80.32,-167.32 -80.32,-226.38 -119.69,-226.38 ; -29.53,-49.21 -29.53,49.21 29.53,49.21 29.53,-49.21 -29.53,-49.21 ; -19.69,-226.38 -19.69,-167.32 19.69,-167.32 19.69,-226.38 -19.69,-226.38 ; 70.47,-49.21 70.47,49.21 129.53,49.21 129.53,-49.21 70.47,-49.21 ; 80.32,-226.38 80.32,-167.32 119.69,-167.32 119.69,-226.38 80.32,-226.38
  text "1" at -105.91,-269.69 h49.6

## 233-404 [mil]
pads (8):
  oval 70.86x141.72 hole 47.24: A1(-150,98.43) A2(-50,98.43) A3(50,98.43) A4(150,98.43) B1(-150,-98.43) B2(-50,-98.43) B3(50,-98.43) B4(150,-98.43)
Top Overlay:
  lines w8: -238.58,-147.64 229.72,-147.64 ; -200,-275 -200,185 ; -100,-275 -100,185 ; 0,-275 0,185 ; 100,-275 100,185 ; 200,-275 200,185 ; 229.72,-147.64 229.72,-206.69 215.94,-206.69 215.94,-246.06 229.72,-246.06 229.72,-279.53 -238.58,-279.53 -238.58,-246.06 -252.36,-246.06 -252.36,-206.69 -238.58,-206.69 -238.58,-127.95 -252.36,-127.95 -252.36,-49.21 -238.58,-49.21 -238.58,127.95 -252.36,127.95 -252.36,167.32 -238.58,167.32 -238.58,188.98 229.72,188.98 229.72,167.32 215.94,167.32 215.94,127.95 229.72,127.95 229.72,-49.21 215.94,-49.21 215.94,-127.95 229.72,-127.95 229.72,-147.64 ; -179.53,-49.21 -179.53,49.21 -120.47,49.21 -120.47,-49.21 -179.53,-49.21 ; -169.69,-226.38 -169.69,-167.32 -130.32,-167.32 -130.32,-226.38 -169.69,-226.38 ; -79.53,-49.21 -79.53,49.21 -20.47,49.21 -20.47,-49.21 -79.53,-49.21 ; -69.69,-226.38 -69.69,-167.32 -30.32,-167.32 -30.32,-226.38 -69.69,-226.38 ; 20.47,-49.21 20.47,49.21 79.53,49.21 79.53,-49.21 20.47,-49.21 ; 30.32,-226.38 30.32,-167.32 69.69,-167.32 69.69,-226.38 30.32,-226.38 ; 120.47,-49.21 120.47,49.21 179.53,49.21 179.53,-49.21 120.47,-49.21 ; 130.32,-226.38 130.32,-167.32 169.69,-167.32 169.69,-226.38 130.32,-226.38
  text "1" at -155.91,-269.69 h49.6

## 233-405 [mil]
pads (10):
  oval 70.86x141.72 hole 47.24: A1(-200,98.43) A2(-100,98.43) A3(0,98.43) A4(100,98.43) A5(200,98.43) B1(-200,-98.43) B2(-100,-98.43) B3(0,-98.43) B4(100,-98.43) B5(200,-98.43)
Top Overlay:
  lines w8: -288.58,-147.64 279.72,-147.64 ; -250,-275 -250,185 ; -150,-275 -150,185 ; -50,-275 -50,185 ; 50,-275 50,185 ; 150,-275 150,185 ; 250,-275 250,185 ; 279.72,-147.64 279.72,-206.69 265.94,-206.69 265.94,-246.06 279.72,-246.06 279.72,-279.53 -288.58,-279.53 -288.58,-246.06 -302.36,-246.06 -302.36,-206.69 -288.58,-206.69 -288.58,-127.95 -302.36,-127.95 -302.36,-49.21 -288.58,-49.21 -288.58,127.95 -302.36,127.95 -302.36,167.32 -288.58,167.32 -288.58,188.98 279.72,188.98 279.72,167.32 265.94,167.32 265.94,127.95 279.72,127.95 279.72,-49.21 265.94,-49.21 265.94,-127.95 279.72,-127.95 279.72,-147.64 ; -229.53,-49.21 -229.53,49.21 -170.47,49.21 -170.47,-49.21 -229.53,-49.21 ; -219.69,-226.38 -219.69,-167.32 -180.32,-167.32 -180.32,-226.38 -219.69,-226.38 ; -129.53,-49.21 -129.53,49.21 -70.47,49.21 -70.47,-49.21 -129.53,-49.21 ; -119.69,-226.38 -119.69,-167.32 -80.32,-167.32 -80.32,-226.38 -119.69,-226.38 ; -29.53,-49.21 -29.53,49.21 29.53,49.21 29.53,-49.21 -29.53,-49.21 ; -19.69,-226.38 -19.69,-167.32 19.69,-167.32 19.69,-226.38 -19.69,-226.38 ; 70.47,-49.21 70.47,49.21 129.53,49.21 129.53,-49.21 70.47,-49.21 ; 80.32,-226.38 80.32,-167.32 119.69,-167.32 119.69,-226.38 80.32,-226.38 ; 170.47,-49.21 170.47,49.21 229.53,49.21 229.53,-49.21 170.47,-49.21 ; 180.32,-226.38 180.32,-167.32 219.69,-167.32 219.69,-226.38 180.32,-226.38
  text "1" at -205.91,-269.69 h49.6
  text "5" at 174.09,-269.69 h49.6